# Altium schematic symbol library main.SchLib: 290 symbols (part 5 of 5)
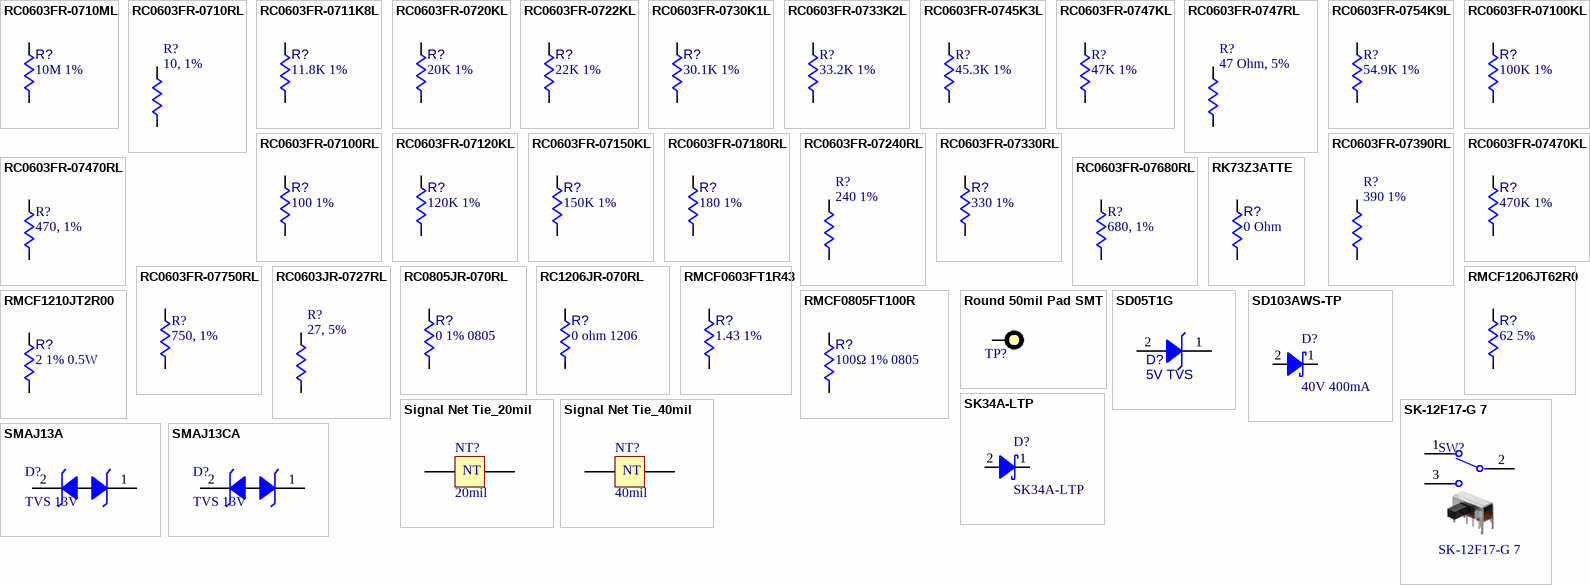
[diagram p14: symbols RC0603FR-0710ML to SMAJ13CA]

## SMAJ13A
designator D?, comment TVS 13V
TVS DIODE 13V 21.5V DO214AC; Manufacturer: Littelfuse; Manufacturer Part Number: SMAJ13A; Voltage - Breakdown (Min): 14.4V; Max Operating Temperature: 150°C; Voltage - Reverse Standoff (Typ): 13V; ComponentLink1URL: http://www.farnell.com/datasheets/2339786.pdf?src-supplier=Farnell; ComponentLink1Description: http://www.farnell.com/datasheets/2339786.pdf?src-supplier=Farnell; Supplier 1: Digi-Key; Supplier Part Number 1: SMAJ13ALFCT-ND
footprint DO-214AC BIDIRECTIONAL
pins: 1 K, 2 A

## SMAJ13CA
designator D?, comment TVS 13V
TVS BIDIRECTIONAL +/-13V; Manufacturer: Littelfuse; Manufacturer Part Number: SMAJ13CA; Voltage - Reverse Standoff (Typ): 13V (Max); Voltage - Breakdown (Min): 14.4V; Max Operating Temperature: 150°C; ComponentLink1URL: http://www.farnell.com/datasheets/2339786.pdf?src-supplier=Farnell; ComponentLink1Description: http://www.farnell.com/datasheets/2339786.pdf?src-supplier=Farnell; Supplier 1: Digi-Key; Supplier Part Number 1: SMAJ13CALFCT-ND
footprint DO-214AC BIDIRECTIONAL
pins: 1 K, 2 A

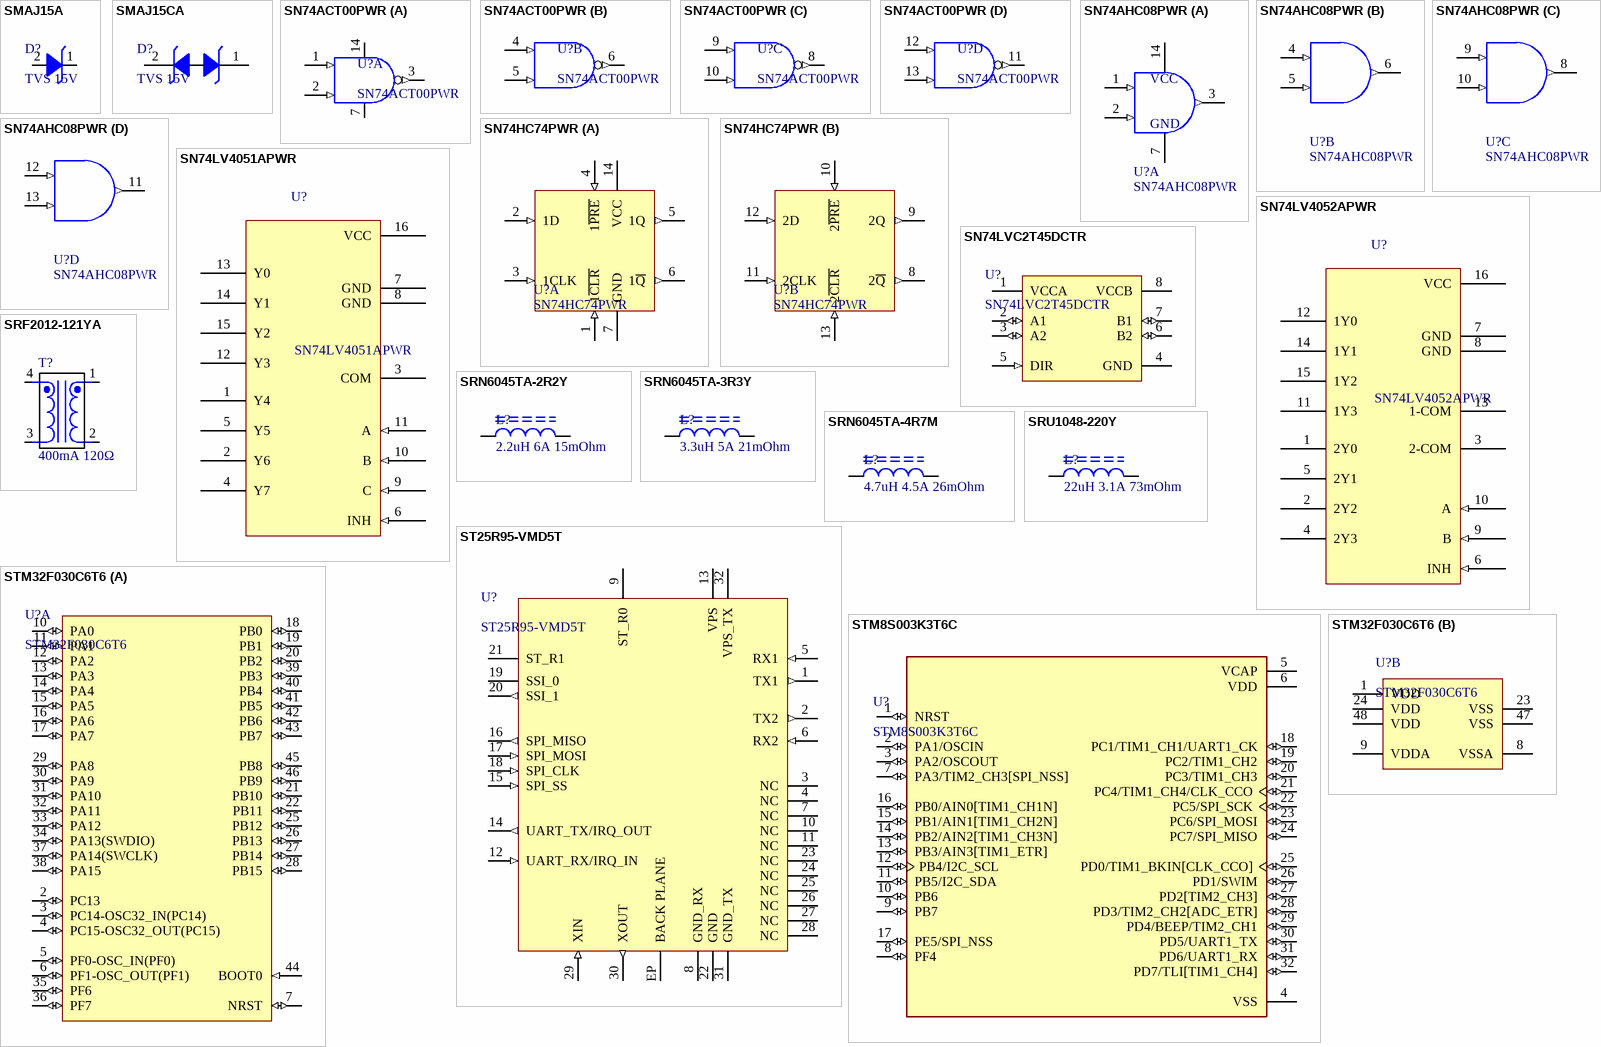
[diagram p8: symbols SMAJ15A to STM32F030C6T6]

## SMAJ15A
designator D?, comment TVS 15V
TVS DIODE 15VWM 32.5VC SMA; Manufacturer: Littelfuse; Manufacturer Part Number: SMAJ15A; Voltage - Reverse Standoff (Typ): 15V (Max); Voltage - Breakdown (Min): 24.4V; Max Operating Temperature: 150°C; ComponentLink1URL: http://www.farnell.com/datasheets/2339786.pdf?src-supplier=Farnell; ComponentLink1Description: http://www.farnell.com/datasheets/2339786.pdf?src-supplier=Farnell; Supplier 1: Digi-Key; Supplier Part Number 1: SMAJ15ABCT-ND
footprint DO-214AC BIDIRECTIONAL
pins: 1 K, 2 A

## SMAJ15CA
designator D?, comment TVS 15V
TVS DIODE 15V 24.4V DO214AC; Manufacturer: Littelfuse; Manufacturer Part Number: SMAJ15CA; Voltage - Reverse Standoff (Typ): 15V (Max); Max Operating Temperature: 150°C; ComponentLink1URL: http://www.farnell.com/datasheets/2339786.pdf?src-supplier=Farnell; ComponentLink1Description: http://www.farnell.com/datasheets/2339786.pdf?src-supplier=Farnell; Voltage - Breakdown (Min): 24.4V; Supplier 1: Digi-Key; Supplier Part Number 1: SMAJ15CALFCT-ND; Supplier 2: Newark; Supplier Part Number 2: 71J1959; Supplier 3: Newark; Supplier Part Number 3: 77K2691; Supplier 4: Digi-Key; Supplier Part Number 4: 497-3004-1-ND; Supplier 5: Digi-Key; Supplier Part Number 5: SMAJ15CA-E3/61GICT-ND; Supplier 6: Mouser; Supplier Part Number 6: 576-SMAJ15CA; Supplier 7: Arrow Electronics; Supplier Part Number 7: SMAJ15CA
footprint DO-214AC BIDIRECTIONAL
pins: 1 K, 2 A

## SN74ACT00PWR
designator U?
IC GATE NAND 4CH 2-INP 14TSSOP; Manufacturer: Texas Instruments; Budgetary Cost QTY 100: 0.31720; Quiescent Current: 2uA; Supply Voltage: 4.5V - 5.5V; Output Current: 24mA, 24mA; VIL: 0.8V; VOH: 2V; Vendor: DigiKey; Vendor PN: 296-4349-1-ND; Mfg PN: SN74ACT00PWR; Type: Open Drain; Type: NAND Gate 4 Channel; Supplier 1: Digi-Key; Supplier Part Number 1: 296-4349-1-ND; Supplier 2: Digi-Key; Supplier Part Number 2: 296-4288-1-ND; Supplier 3: Mouser; Supplier Part Number 3: 595-SN74ACT00PWR
footprint TSSOP-14, 4.4mm body width, pitch 0.65mm (TSOP, 14-Leads, Body 4.40mm width, Pitch 0.65mm)
part A pins: 1 1A (in), 2 1B (in), 3 1Y (out), 7 GND (power), 14 VCC (power)
part B pins: 4 2A (in), 5 2B (in), 6 2Y (out)
part C pins: 8 3Y (out), 9 3A (in), 10 3B (in)
part D pins: 11 4Y (out), 12 4A (in), 13 4B (in)

## SN74AHC08PWR
designator U?
IC GATE AND 4CH 2-INP 14TSSOP; Manufacturer: Texas Instruments; Max Propagation Delay @ V, Max CL: 7.9ns @ 5V, 50pF; Supply Voltage: 2V ~ 5.5V; Logic Type: AND Gate; Logic Level - Low: 0.5V ~ 1.65V; Logic Level - High: 1.5V ~ 3.85V; Current - Supply: 2µA; Number of Circuits: 4; Current - Output / Channel: 8mA, 8mA; ComponentLink1Description: New link; ComponentLink1URL: https://www.digikey.com/en/products/detail/texas-instruments/LMV324IPWR/381071; Manufacturer Part Number: SN74AHC08PWR; Supplier 1: Digi-Key; Supplier Part Number 1: 296-1082-1-ND
footprint TSSOP-14, 4.4mm body width, pitch 0.65mm (TSOP, 14-Leads, Body 4.40mm width, Pitch 0.65mm)
part A pins: 1 1A (in), 2 1B (in), 3 1Y (out), 7 GND (power), 14 VCC+ (power)
part B pins: 4 2A (in), 5 2B (in), 6 2Y (out)
part C pins: 8 3Y (out), 9 3A (in), 10 3B (in)
part D pins: 11 4Y (out), 12 4A (in), 13 4B (in)
part A text: VCC

## SN74HC74PWR
designator U?
IC FF D-TYPE DUAL 1BIT 14TSSOP; Manufacturer: Texas Instruments; Function: Set(Preset) and Reset; Output Type: Complimentary; Max Propagation Delay @ V, Max CL: 30ns @ 6V, 50pF; Trigger Type: Positive Edge; Current - Output High, Low: 5.2mA, 5.2mA; Voltage - Supply: 2V ~ 6V; Number of Elements: 2; Current - Quiescent (Iq): 4µA; Input Capacitance: 3pF; Manufacturer Part Number: SN74HC74PWR; Stock 1: 10,554; Supplier 1: Digi-Key; Type: D-Type; Supplier Part Number 1: 296-8372-1-ND
footprint TSSOP-14, 4.4mm body width, pitch 0.65mm (TSOP, 14-Leads, Body 4.40mm width, Pitch 0.65mm)
part A pins: 1 1~{CLR} (in), 2 1D (in), 3 1CLK (in), 4 1~{PRE} (in), 5 1Q (out), 6 1~{Q} (out), 7 GND (power), 14 VCC (power)
part B pins: 8 2~{Q} (out), 9 2Q (out), 10 2~{PRE} (in), 11 2CLK (in), 12 2D (in), 13 2~{CLR} (in)

## SN74LV4051APWR
designator U?
IC MUX/DEMUX 8X1 16TSSOP; Manufacturer: Texas Instruments; Switch Circuit: SP8T; Mux/Demux Circuit: 8:1; On-State Resistance (Max): 75Ohm; Channel to Channel Matching: 700mOhm; Supply Voltage: 2V ~ 5.5V; Switch Time: 14ns, 14ns; -3dB Bandwidth: 35MHz; Number of Circuits: 1; Stock 1: 48611; Case/Package: TSSOP-16; ComponentLink1Description: Link; ComponentLink1URL: https://www.digikey.com/en/products/detail/maxim-integrated/MAX11613EUA-T/2062201; Manufacturer Part Number: SN74LV4051APWR; Supplier 1: Digi-Key; Supplier Part Number 1: 296-3829-1-ND
footprint TSSOP-16, 4.4mm body width, pitch 0.65mm (TSOP, 16-Leads, Body 4.40mm width, Pitch 0.65mm)
pins: 1 Y4, 2 Y6, 3 COM, 4 Y7, 5 Y5, 6 INH (in), 7 GND (power), 8 GND (power), 9 C (in), 10 B (in), 11 A (in), 12 Y3, 13 Y0, 14 Y1, 15 Y2, 16 VCC (power)

## SN74LV4052APWR
designator U?
IC MULTIPLEXER DUAL 4X1 16TSSOP; Manufacturer: Texas Instruments; Switch Circuit: SP4T; Mux/Demux Circuit: 4:1; On-State Resistance (Max): 75Ohm; Channel to Channel Matching: 700mOhm; Supply Voltage: 2V ~ 5.5V; Switch Time: 14ns, 14ns; -3dB Bandwidth: 50MHz; Number of Circuits: 2; Stock 1: 48611; Case/Package: TSSOP-16; ComponentLink1Description: Link; ComponentLink1URL: https://www.digikey.com/en/products/detail/maxim-integrated/MAX11613EUA-T/2062201; Manufacturer Part Number: SN74LV4052APWR; Supplier 1: Digi-Key; Supplier Part Number 1: 296-3831-1-ND
footprint TSSOP-16, 4.4mm body width, pitch 0.65mm (TSOP, 16-Leads, Body 4.40mm width, Pitch 0.65mm)
pins: 1 2Y0, 2 2Y2, 3 2-COM, 4 2Y3, 5 2Y1, 6 INH (in), 7 GND (power), 8 GND (power), 9 B (in), 10 A (in), 11 1Y3, 12 1Y0, 13 1-COM, 14 1Y1, 15 1Y2, 16 VCC (power)

## SN74LVC2T45DCTR
designator U?
IC LEVEL SHIFTER BIDIREC 5.5V SSOP8; Manufacturer: Texas Instruments; Manufacturer Part Number: SN74LVC2T45DCTRE4; Direction: Bidirectional; Logic Function: Translator,Transceiver; Data Rate: 420Mbps; Number of Channels: 2; Propagation Delay: 45.2ns; Min Supply Voltage: 1.65V; Number of Elements: 1; Turn-On Delay Time: 17.7ns; High Level Output Current: -32mA; Low Level Output Current: 32mA; Quiescent Current: 3uA; Supplier 1: Digi-Key; Category: Logic Gates; Stock 1: 3050; Pricing 1: 1=0.61000, 10=0.53700, 100=0.41170, 500=0.32548, 1000=0.26038 (USD); Case/Package: SSOP; Min Operating Temperature: -40°C; Max Operating Temperature: 85°C; Max Supply Voltage: 5.5V; Number of Bits: 2; Output Current: 32mA; ComponentLink1URL: https://datasheet.ciiva.com/1900/sn74lvc2t45-1900582.pdf?src-supplier=Digi-Key; ComponentLink1Description: https://datasheet.ciiva.com/1900/sn74lvc2t45-1900582.pdf?src-supplier=Digi-Key; Supplier Part Number 1: 296-52741-1-ND
footprint DCT0008A_N (SOP, 8-Leads, Body 2.9x3.2mm, Pitch 0.65mm, IPC Medium Density)
pins: 1 VCCA (power) "Supply Voltage A", 2 A1 (io) "Output or input depending on state of DIR. Output level depends on VCCA", 3 A2 (io) "Output or input depending on state of DIR. Output level depends on VCCA", 4 GND (power) "Ground", 5 DIR (in) "Direction Pin, Connect to GND or to VCCA", 6 B2 (io) "Output or input depending on state of DIR. Output level depends on VCCB.", 7 B1 (io) "Output or input depending on state of DIR. Output level depends on VCCB.", 8 VCCB (power) "Supply Voltage B"

## SRF2012-121YA
designator T?, comment 400mA 120Ω
CHOKE CM 400mA 120Ω 0805; Manufacturer: Bourns; Manufacturer Part Number: SRF2012-121YA; Core Material: Ferrite; Number of Lines: 2; Impedance: 120R; Tolerance: 25%; Shielding: Unshielded; DC Resistance (DCR): 300mR; Test Frequency: 100MHz; Voltage Rating (DC): 50V; ComponentLink1URL: https://www.bourns.com/docs/Product-Datasheets/SRF2012A.pdf?src-supplier=Digi-Key; ComponentLink1Description: https://www.bourns.com/docs/Product-Datasheets/SRF2012A.pdf?src-supplier=Digi-Key; Supplier 1: Digi-Key; Supplier Part Number 1: SRF2012-121YADKR-ND; Stock 1: 13234; Pricing 1: 1=0.36, 10=0.322, 100=0.2214, 500=0.18918, 1000=0.1449 (USD); Case/Package: 0805; Min Operating Temperature: -40°C; Max Operating Temperature: 125°C; Resistance: 120R; Current Rating: 400mA; Current: 400mA; Max DC Current: 400mA; DC Current: 400mA; Height: 1.2mm
footprint DFN185P200X140-4N (DFN, 4-Leads, Body 1.20x2.00mm, Pitch 1.85mm, IPC Medium Density)
pins: 1, 2, 3, 4

## SRN6045TA-2R2Y
designator L?, comment 2.2uH 6A 15mOhm
FIXED IND 2.2UH 6A 15 MOHM SMD; Manufacturer: Bourns; Manufacturer Part Number: SRN6045TA-2R2Y; Saturation Current: 9.5A; DC Resistance (DCR): 15mR; Inductance Tolerance: 30%; Supplier 1: Digi-Key; Category: Fixed Inductors; Stock 1: 1245; Pricing 1: 1=0.55000, 10=0.48300, 100=0.34500, 500=0.28980 (USD); Inductance: 2.2uH; RMS Current (Irms): 6A; ComponentLink1URL: http://www.farnell.com/datasheets/2113223.pdf?src-supplier=Element14; ComponentLink1Description: http://www.farnell.com/datasheets/2113223.pdf?src-supplier=Element14; Supplier Part Number 1: SRN6045TA-2R2YCT-ND
footprint INDP6060X45N (Precision Wire Wound Inductor, 2-Leads, Body 6.00x6.00mm, IPC Medium Density)
pins: 1, 2

## SRN6045TA-3R3Y
designator L?, comment 3.3uH 5A 21mOhm
FIXED IND 3.3UH 5A 21 MOHM SMD; Manufacturer: Bourns; Manufacturer Part Number: SRN6045TA-3R3Y; Saturation Current: 7.8A; DC Resistance (DCR): 21mR; Inductance Tolerance: 30%; Category: Fixed Inductors; Inductance: 3.3uH; RMS Current (Irms): 5A; ComponentLink1URL: http://www.farnell.com/datasheets/2113223.pdf?src-supplier=Element14; ComponentLink1Description: http://www.farnell.com/datasheets/2113223.pdf?src-supplier=Element14; Supplier 1: Digi-Key; Supplier Part Number 1: SRN6045TA-3R3YCT-ND
footprint INDP6060X45N (Precision Wire Wound Inductor, 2-Leads, Body 6.00x6.00mm, IPC Medium Density)
pins: 1, 2

## SRN6045TA-4R7M
designator L?, comment 4.7uH 4.5A 26mOhm
FIXED IND 4.7UH 4.5A 26 MOHM SMD; Manufacturer: Bourns; Manufacturer Part Number: SRN6045TA-4R7M; Inductance Tolerance: 20%; Saturation Current: 6.8A; DC Resistance (DCR): 26mR; Supplier 1: Digi-Key; Category: Fixed Inductors; Stock 1: 2457; Pricing 1: 1=0.64000, 10=0.56400, 100=0.40250, 500=0.33810 (USD); Inductance: 4.7uH; RMS Current (Irms): 4.5A; ComponentLink1URL: http://www.farnell.com/datasheets/2647414.pdf?src-supplier=Farnell; ComponentLink1Description: http://www.farnell.com/datasheets/2647414.pdf?src-supplier=Farnell; Supplier Part Number 1: SRN6045TA-4R7MCT-ND
footprint INDP6060X45N (Precision Wire Wound Inductor, 2-Leads, Body 6.00x6.00mm, IPC Medium Density)
pins: 1, 2

## SRU1048-220Y
designator L?, comment 22uH 3.1A 73mOhm
FIXED IND 22UH 2.6A 42 MOHM SMD; Manufacturer: Bourns; Manufacturer Part Number: SRU1048-220Y; Type: Wirewound; Inductance: 22µH; Current - Saturation (Isat): 2A; DC Resistance (DCR): 42mR; Tolerance: ±30%; Shielding: Shielded; Frequency - Self Resonant: 12MHz; Stock 1: 4346; Current Rating (Amps): 2.6A; Supplier 1: Mouser; Supplier Part Number 1: 652-SRU1048-220Y; Supplier 2: Newark; Supplier Part Number 2: 09J2990; Supplier 3: Digi-Key; Supplier Part Number 3: SRU1048-220YCT-ND; Supplier 4: Avnet; Supplier Part Number 4: SRU1048-220Y
footprint INDP100100X50N (Precision Wire Wound Inductor, 2-Leads, Body 10.00x10.00mm, IPC Medium Density)
pins: 1, 2

## ST25R95-VMD5T
designator U?
NFC/HF RFID READER IC; Manufacturer: STMicroelectronics; Frequency: 13.56MHz; Standards: FeliCa, ISO 14443, ISO 15693, ISO 18000-3, MIFARE, NFC; Voltage - Supply: 2.7V ~ 5.5V; Manufacturer Part Number: ST25R95-VMD5T; Type: RFID Reader; Case/Package: 32-VFQFN Exposed Pad; Operating Temperature: -25°C ~ 85°C (TA); Supplier 1: Newark; Supplier Part Number 1: 99AC0619
footprint VFQFPN-32 5x5mm w EP
pins: 1 TX1 (out), 2 TX2 (out), 3 NC, 4 NC, 5 RX1 (in), 6 RX2 (in), 7 NC, 8 GND_RX (power), 9 ST_R0 (power), 10 NC, 11 NC, 12 UART_RX/IRQ_IN (in), 13 VPS (power), 14 UART_TX/IRQ_OUT (out), 15 SPI_SS (in), 16 SPI_MISO (out), 17 SPI_MOSI (in), 18 SPI_CLK (in), 19 SSI_0 (power), 20 SSI_1 (out), 21 ST_R1 (power), 22 GND (power), 23 NC, 24 NC, 25 NC, 26 NC, 27 NC, 28 NC, 29 XIN (in), 30 XOUT (out), 31 GND_TX (power), 32 VPS_TX (power), EP BACK PLANE (power)

## STM8S003K3T6C
designator U?
IC MCU STM8 16MHz 8/2KB 32-LQFP; MF: STMicroelectronics; Price: None; MP: STM8S003K3T6C; SnapEDA_Link: https://www.snapeda.com/parts/STM8S003K3T6C/STMicroelectronics/view-part/430215/?ref=snap; Availability: Unavailable; Package: LQFP-32 STMicroelectronics; Value: *
footprint QFP80P900X900X160-32N
pins: 1 NRST (io), 2 PA1/OSCIN (io), 3 PA2/OSCOUT (io), 4 VSS (power), 5 VCAP (power), 6 VDD (power), 7 PA3/TIM2_CH3[SPI_NSS] (io), 8 PF4 (io), 9 PB7 (io), 10 PB6 (io), 11 PB5/I2C_SDA (io), 12 PB4/I2C_SCL (io), 13 PB3/AIN3[TIM1_ETR] (io), 14 PB2/AIN2[TIM1_CH3N] (io), 15 PB1/AIN1[TIM1_CH2N] (io), 16 PB0/AIN0[TIM1_CH1N] (io), 17 PE5/SPI_NSS (io), 18 PC1/TIM1_CH1/UART1_CK (io), 19 PC2/TIM1_CH2 (io), 20 PC3/TIM1_CH3 (io), 21 PC4/TIM1_CH4/CLK_CCO (io), 22 PC5/SPI_SCK (io), 23 PC6/SPI_MOSI (io), 24 PC7/SPI_MISO (io), 25 PD0/TIM1_BKIN[CLK_CCO] (io), 26 PD1/SWIM (io), 27 PD2[TIM2_CH3] (io), 28 PD3/TIM2_CH2[ADC_ETR] (io), 29 PD4/BEEP/TIM2_CH1 (io), 30 PD5/UART1_TX (io), 31 PD6/UART1_RX (io), 32 PD7/TLI[TIM1_CH4] (io)

## STM32F030C6T6
designator U?
IC MCU STM32 M0 48MHz 32/4KB 48-LQFP; Manufacturer: STMicroelectronics; Number of I/Os: 39; Interface: I2C,SPI,UART,USART; Number of Timers/Counters: 5; Max Supply Voltage: 3.6V; RAM Size: 4KB; Max Power Dissipation: 364mW; Core Architecture: ARM; Min Supply Voltage: 2.4V; Oscillator Type: Internal; Data Bus Width: 32b; Peripherals: POR,PWM,WDT,DMA; Watchdog Timer: Yes; Number of ADC Channels: 16; Memory Size: 32KB; Number of SPI Channels: 1; Number of PWM Channels: 6; Supplier 1: Digi-Key; Manufacturer Part Number: STM32F030C6T6; Category: Microcontrollers; Stock 1: 1620; Pricing 1: 1=1.48000, 10=1.32900, 25=1.25400, 100=1.06840, 250=1.00320, 500=0.87780, 1000=0.72732, 2500=0.67716, 5000=0.65208 (USD); Case/Package: LQFP; Min Operating Temperature: -40°C; Max Operating Temperature: 85°C; Frequency: 48MHz; Number of Programmable I/O: 39; Max Frequency: 48MHz; Number of I2C Channels: 1; Height: 1.45mm; ComponentLink1URL: https://datasheet.ciiva.com/29720/dm00088500-29720640.pdf?src-supplier=Avnet; ComponentLink1Description: https://datasheet.ciiva.com/29720/dm00088500-29720640.pdf?src-supplier=Avnet; Supplier Part Number 1: 497-14042-ND
footprint STM-LQFP48_N (QFP, 48-Leads, Body 7x7mm, Pitch 0.5mm, IPC Medium Density)
part A pins: 2 PC13 (io) "PC13/RTC_TAMP1,RTC_TS,RTC_OUT,WKUP2", 3 PC14-OSC32_IN(PC14) (io) "PC14-OSC32_IN(PC14)/OSC32_IN", 4 PC15-OSC32_OUT(PC15) (io) "PC15-OSC32_OUT(PC15)/OSC32_OUT", 5 PF0-OSC_IN(PF0) (io) "PF0-OSC_IN(PF0)/OSC_IN", 6 PF1-OSC_OUT(PF1) (io) "PF1-OSC_OUT(PF1)/OSC_OUT", 7 NRST (io) "Device reset input / internal reset output (active low)", 10 PA0 (io) "PA0/USART1_CTS/ADC_IN0,RTC_TAMP2,WKUP1", 11 PA1 (io) "PA1/USART1_RTS,EVENTOUT/ADC_IN1", 12 PA2 (io) "PA2/USART1_TX/ADC_IN2", 13 PA3 (io) "PA3/USART1_RX/ADC_IN3", 14 PA4 (io) "PA4/SPI1_NSS,USART1_CK,TIM14_CH1/ADC_IN4", 15 PA5 (io) "PA5/SPI1_SCK/ADC_IN5", 16 PA6 (io) "PA6/SPI1_MISO,TIM3_CH1,TIM1_BKIN,TIM16_CH1,EVENTOUT/ADC_IN6", 17 PA7 (io) "PA7/SPI1_MOSI,TIM3_CH2,TIM14_CH1,TIM1_CH1N,TIM17_CH1,EVENTOUT/ADC_IN7", 18 PB0 (io) "PB0/TIM3_CH3,TIM1_CH2N,EVENTOUT/ADC_IN8", 19 PB1 (io) "PB1/TIM3_CH4,TIM14_CH1,TIM1_CH3N/ADC_IN9", 20 PB2 (io), 21 PB10 (io) "PB10/I2C1_SCL", 22 PB11 (io) "PB11/I2C1_SDA,EVENTOUT", 25 PB12 (io) "PB12/SPI1_NSS,TIM1_BKIN,EVENTOUT", 26 PB13 (io) "PB13/SPI1_SCK,TIM1_CH1N", 27 PB14 (io) "PB14/SPI1_MISO,TIM1_CH2N", 28 PB15 (io) "PB15/SPI1_MOSI,TIM1_CH3N/RTC_REFIN", 29 PA8 (io) "PA8/USART1_CK,TIM1_CH1,EVENTOUT,MCO", 30 PA9 (io) "PA9/USART1_TX,TIM1_CH2,I2C1_SCL", 31 PA10 (io) "PA10/USART1_RX,TIM1_CH3,TIM17_BKIN,I2C1_SDA", 32 PA11 (io) "PA11/USART1_CTS,TIM1_CH4,EVENTOUT", 33 PA12 (io) "PA12/USART1_RTS,TIM1_ETR,EVENTOUT", 34 PA13(SWDIO) (io) "PA13(SWDIO)/IR_OUT,SWDIO", 35 PF6 (io) "PF6/I2C1_SCL", 36 PF7 (io) "PF7/I2C1_SDA", 37 PA14(SWCLK) (io) "PA14(SWCLK)/USART1_TX,SWCLK", 38 PA15 (io) "PA15/SPI1_NSS,USART1_RX,EVENTOUT", 39 PB3 (io) "PB3/SPI1_SCK,EVENTOUT", 40 PB4 (io) "PB4/SPI1_MISO,TIM3_CH1,EVENTOUT", 41 PB5 (io) "PB5/SPI1_MOSI,I2C1_SMBA,TIM16_BKIN,TIM3_CH2", 42 PB6 (io) "PB6/I2C1_SCL,USART1_TX,TIM16_CH1N", 43 PB7 (io) "PB7/I2C1_SDA,USART1_RX,TIM17_CH1N", 44 BOOT0 (in) "Boot memory selection", 45 PB8 (io) "PB8/I2C1_SCL,TIM16_CH1", 46 PB9 (io) "PB9/I2C1_SDA,IR_OUT,TIM17_CH1,EVENTOUT"
part B pins: 1 VDD (power) "Complementary power supply", 8 VSSA (power) "Analog ground", 9 VDDA (power) "Analog power supply", 23 VSS (power) "Ground", 24 VDD (power) "Digital power supply", 47 VSS (power) "Ground", 48 VDD (power) "Digital power supply"

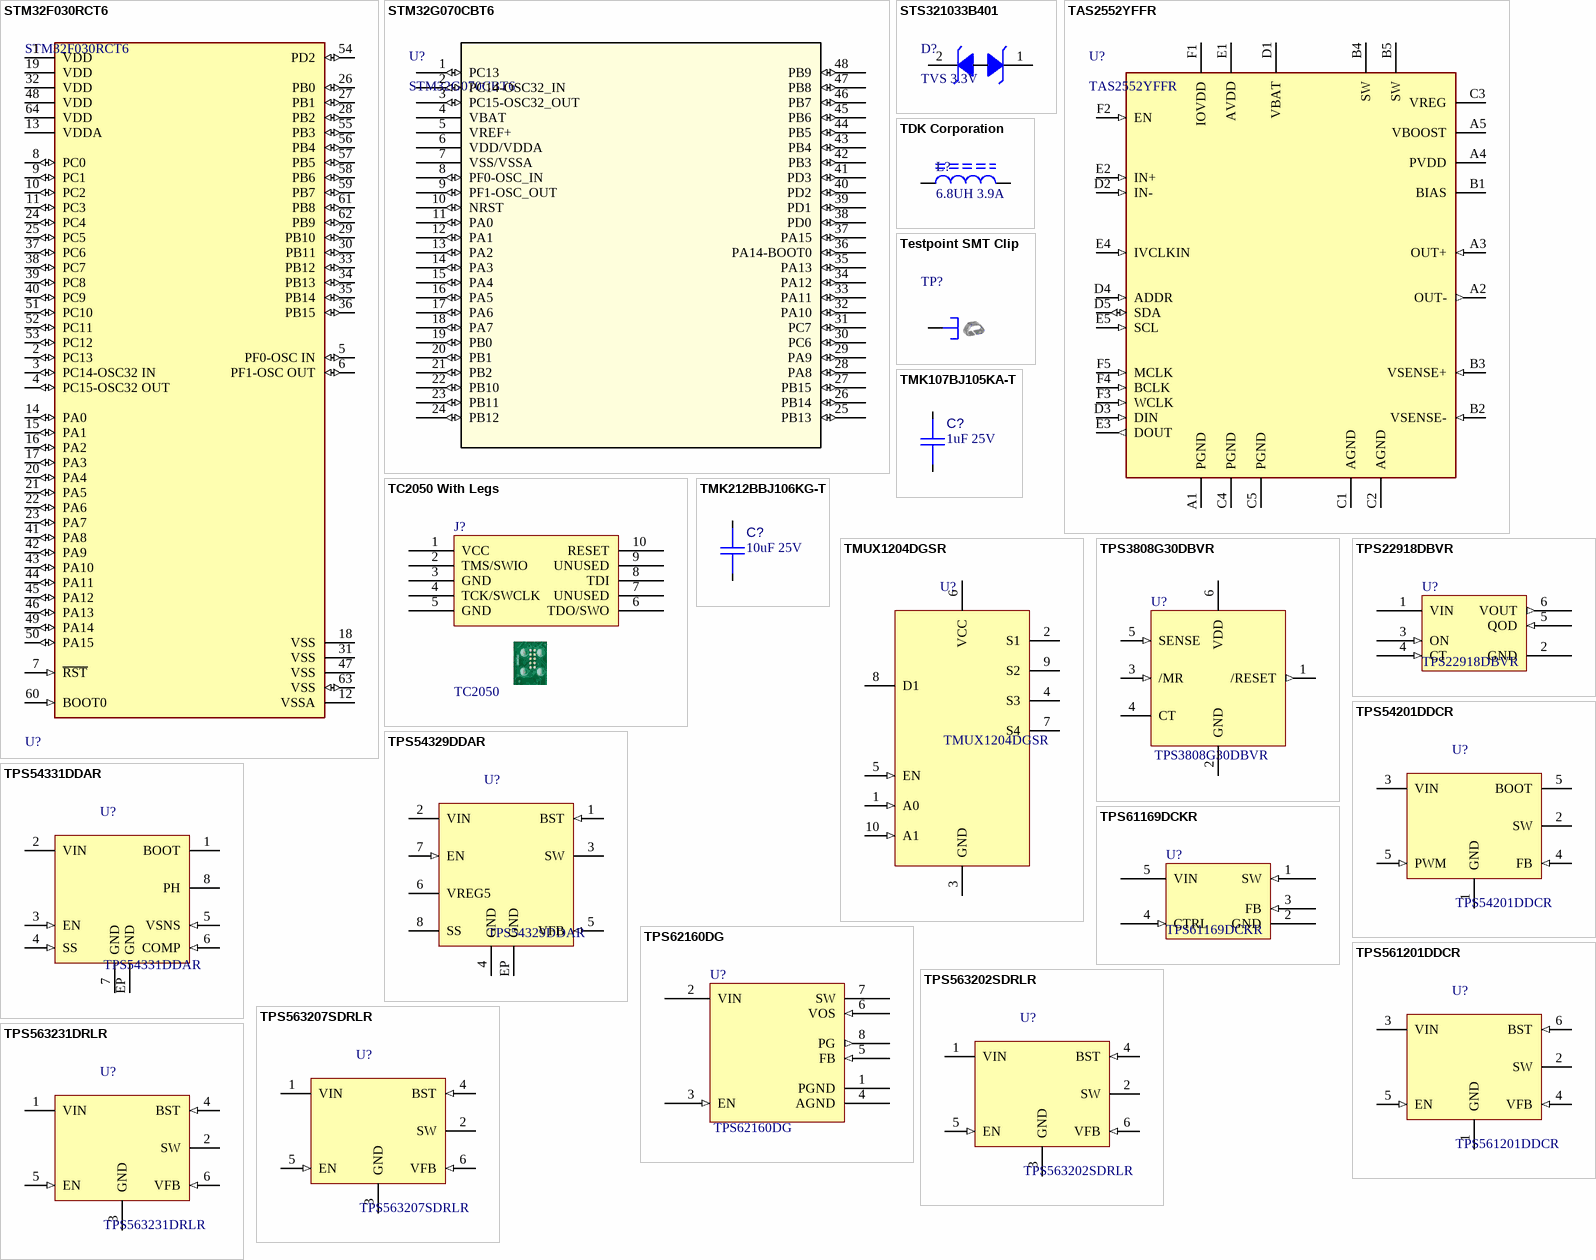
[diagram p9: symbols STM32F030RCT6 to TPS563231DRLR]

## STM32F030RCT6
designator U?
IC MCU STM32 M0 48MHz 256/32KB 64-LQFP; Manufacturer: STMicroelectronics; Number of I/Os: 51; Interface: I2C,SPI,USART; Memory Size: 256KB; Core Architecture: ARM; RAM Size: 32KB; Min Supply Voltage: 2.4V; Max Supply Voltage: 3.6V; Data Bus Width: 32b; Max Power Dissipation: 455mW; Number of Programmable I/O: 55; Number of Timers/Counters: 7; Watchdog Timer: Yes; Supplier 1: Digi-Key; Manufacturer Part Number: STM32F030RCT6; Category: Microcontrollers; Stock 1: 1141; Pricing 1: 1=2.69000, 10=2.41900, 25=2.28680, 100=1.98200, 250=1.88036, 500=1.68722, 1000=1.42296, 2500=1.35181, 5000=1.30099 (USD); Case/Package: LQFP; Min Operating Temperature: -40°C; Max Operating Temperature: 85°C; Frequency: 48MHz; Max Frequency: 48MHz; ComponentLink1URL: http://www.farnell.com/datasheets/2554494.pdf?src-supplier=Farnell; ComponentLink1Description: http://www.farnell.com/datasheets/2554494.pdf?src-supplier=Farnell; Supplier Part Number 1: 497-17336-ND
footprint FP-LQFP64-5W-IPC_C
footprint FP-LQFP64-5W-IPC_B
footprint FP-LQFP64-5W-IPC_A
pins: 1 VDD (power), 2 PC13 (io), 3 PC14-OSC32 IN (io), 4 PC15-OSC32 OUT (io), 5 PF0-OSC IN (io), 6 PF1-OSC OUT (io), 7 ~{RST} (in), 8 PC0 (io), 9 PC1 (io), 10 PC2 (io), 11 PC3 (io), 12 VSSA (power), 13 VDDA (power), 14 PA0 (io), 15 PA1 (io), 16 PA2 (io), 17 PA3 (io), 18 VSS (power), 19 VDD (power), 20 PA4 (io), 21 PA5 (io), 22 PA6 (io), 23 PA7 (io), 24 PC4 (io), 25 PC5 (io), 26 PB0 (io), 27 PB1 (io), 28 PB2 (io), 29 PB10 (io), 30 PB11 (io), 31 VSS (power), 32 VDD (power), 33 PB12 (io), 34 PB13 (io), 35 PB14 (io), 36 PB15 (io), 37 PC6 (io), 38 PC7 (io), 39 PC8 (io), 40 PC9 (io), 41 PA8 (io), 42 PA9 (io), 43 PA10 (io), 44 PA11 (io), 45 PA12 (io), 46 PA13 (io), 47 VSS (power), 48 VDD (power), 49 PA14 (io), 50 PA15 (io), 51 PC10 (io), 52 PC11 (io), 53 PC12 (io), 54 PD2 (io), 55 PB3 (io), 56 PB4 (io), 57 PB5 (io), 58 PB6 (io), 59 PB7 (io), 60 BOOT0 (in), 61 PB8 (io), 62 PB9 (io), 63 VSS (io), 64 VDD (power)

## STM32G070CBT6
designator U?
IC MCU STM32 M0+ 64MHz 128/36KB 48-LQFP; Manufacturer: STMicroelectronics; Supplier 1: Digi-Key; Manufacturer Part Number: STM32G070CBT6; Stock 1: 3470; Pricing 1: 1=1.87000, 10=1.67900, 25=1.58400, 100=1.34960, 250=1.26720, 500=1.10880, 1000=0.91872, 2500=0.85536, 5000=0.82368 (USD); ComponentLink1URL: https://www.mouser.com/datasheet/2/389/stm32g070cb-1517433.pdf?src-supplier=Avnet; ComponentLink1Description: https://www.mouser.com/datasheet/2/389/stm32g070cb-1517433.pdf?src-supplier=Avnet; Supplier Part Number 1: 497-STM32G070CBT6-ND
footprint STM-LQFP48_N (QFP, 48-Leads, Body 7x7mm, Pitch 0.5mm, IPC Medium Density)
pins: 1 PC13 (io), 2 PC14-OSC32_IN (io), 3 PC15-OSC32_OUT (io), 4 VBAT (power), 5 VREF+ (power), 6 VDD/VDDA (power), 7 VSS/VSSA (power), 8 PF0-OSC_IN (io), 9 PF1-OSC_OUT (io), 10 NRST (io), 11 PA0 (io), 12 PA1 (io), 13 PA2 (io), 14 PA3 (io), 15 PA4 (io), 16 PA5 (io), 17 PA6 (io), 18 PA7 (io), 19 PB0 (io), 20 PB1 (io), 21 PB2 (io), 22 PB10 (io), 23 PB11 (io), 24 PB12 (io), 25 PB13 (io), 26 PB14 (io), 27 PB15 (io), 28 PA8 (io), 29 PA9 (io), 30 PC6 (io), 31 PC7 (io), 32 PA10 (io), 33 PA11 (io), 34 PA12 (io), 35 PA13 (io), 36 PA14-BOOT0 (io), 37 PA15 (io), 38 PD0 (io), 39 PD1 (io), 40 PD2 (io), 41 PD3 (io), 42 PB3 (io), 43 PB4 (io), 44 PB5 (io), 45 PB6 (io), 46 PB7 (io), 47 PB8 (io), 48 PB9 (io)

## STS321033B401
designator D?, comment TVS 3.3V
TVS BIDIRECTIONAL +/-3.3V; Manufacturer: Eaton; Manufacturer Part Number: STS321033B401; Voltage - Reverse Standoff (Typ): 3.3V (Max); Capacitance: 40pF @ 1MHz; Voltage - Breakdown (Min): 3.6V; Max Operating Temperature: 150°C; ComponentLink1URL: http://www.farnell.com/datasheets/2339786.pdf?src-supplier=Farnell; ComponentLink1Description: http://www.farnell.com/datasheets/2339786.pdf?src-supplier=Farnell; Supplier 1: Digi-Key; Supplier Part Number 1: DF2B7AFUH3FCT-ND
footprint SOD-323 BIDIRECTIONAL
pins: 1 K, 2 A

## TAS2552YFFR
designator U?
IC AMP D/G MONO 4W 30DSBGA; Manufacturer: Texas Instruments; Voltage - Supply: 3V-5.5V; Interface: SAI/Analog; Output Power: 4W @ 8ohm; I2C Address: 0x40; Manufacturer's Part Number: TAS2552YFFR; Operating Temperature: -40°C ~ 85°C; Type: Class DG; Supplier 1: Digi-Key; Supplier Part Number 1: 296-37477-1-ND
footprint DSBGA-30 2.855x2.575mm (DSBGA-30 2.855x2.675mm)
pins: A1 PGND (power), A2 OUT- (out), A3 OUT+ (in), A4 PVDD (power), A5 VBOOST (power), B1 BIAS (power), B2 VSENSE- (in), B3 VSENSE+ (in), B4 SW (power), B5 SW (power), C1 AGND (power), C2 AGND (power), C3 VREG (power), C4 PGND (power), C5 PGND (power), D1 VBAT (power), D2 IN- (in), D3 DIN (in), D4 ADDR (in), D5 SDA (io), E1 AVDD (power), E2 IN+ (in), E3 DOUT (out), E4 IVCLKIN (in), E5 SCL (in), F1 IOVDD (power), F2 EN (in), F3 WCLK (in), F4 BCLK (in), F5 MCLK (in)

## TC2050 With Legs
designator J?, comment TC2050  (no BOM)
SIG ARM 10-pin JTAG TC2050 legs; Load: NO LOAD; ComponentLink1Description: Layout spec; ComponentLink1URL: http://www.tag-connect.com/Materials/TC2050-IDC%20Datasheet.pdf
footprint TC2050 LEGS TAG LAYOUT
pins: 1 VCC, 2 TMS/SWIO, 3 GND, 4 TCK/SWCLK, 5 GND, 6 TDO/SWO, 7 UNUSED, 8 TDI, 9 UNUSED, 10 RESET

## TDK Corporation
designator L?, comment 6.8UH 3.9A
FIXED IND 6.8UH 3.9A 37MOHM SMD; Manufacturer: Bourns; Manufacturer Part Number: VLS6045AF-6R8M; RMS Current (Irms): 3.5A; DC Resistance (DCR): 37mR; Inductance Tolerance: 20%; Category: Fixed Inductors; Inductance: 6.8uH; Saturation Current: 3.5A; ComponentLink1URL: http://www.farnell.com/datasheets/2113223.pdf?src-supplier=Element14; ComponentLink1Description: http://www.farnell.com/datasheets/2113223.pdf?src-supplier=Element14; Supplier 1: Digi-Key; Supplier 2: Mouser; Supplier Part Number 1: 445-180836-1-ND; Supplier Part Number 2: 810-VLS6045AF-6R8M
footprint INDP6060X45N (Precision Wire Wound Inductor, 2-Leads, Body 6.00x6.00mm, IPC Medium Density)
pins: 1, 2

## Testpoint SMT Clip
designator TP?  (value not drawn)
SIG miniature test loop SMD; Manufacturer: Keystone Electronics; Manufacturer Part Number: 5015; Category: Test and Measurement; Stock 1: 1025000; Pricing 1: 1000=0.18345, 3000=0.1639, 5000=0.1568, 10000=0.14265, 50000=0.14203 (USD); Type: PC Test Point, Miniature; Terminal: 0.010" (0.25mm) Phosphor Bronze, Silver Plated; Mounting Type: Surface Mount; ComponentLink1URL: http://www.keyelco.com/product-pdf.cfm?p=1353; ComponentLink1Description: http://www.keyelco.com/product-pdf.cfm?p=1353; Supplier 1: Digi-Key; Supplier Part Number 1: 36-5015TR-ND; Supplier 2: Mouser; Supplier Part Number 2: 534-5015; Supplier 3: Newark; Supplier Part Number 3: 21J7580
footprint Testpoint Keystone 5015 (TEST POINT MINIATURE SMT)
pins: 1

## TMK107BJ105KA-T
designator C?, comment 1uF 25V
CAP CER 1UF 25V X7R 0603; Manufacturer: Taiyo Yuden; Manufacturer Part Number: TMK107BJ105KA-T; Tolerance: 10%; item_number: 21234; Stock 1: 165888; Pricing 1: 1=0.1, 10=0.073, 100=0.0324, 500=0.0231, 1000=0.0182 (USD); ComponentLink1URL: https://datasheet.ciiva.com/2990/tmk107b7105ka-t-ss-2990064.pdf; ComponentLink1Description: https://datasheet.ciiva.com/2990/tmk107b7105ka-t-ss-2990064.pdf; Case/Package: 0603; Min Operating Temperature: -55°C; Max Operating Temperature: 125°C; Capacitance: 1uF; Voltage Rating: 25V; Temperature Coefficient: X7R; Height: 0.8mm; Supplier 1: Digi-Key; Supplier Part Number 1: 587-1248-1-ND
footprint CAPC1608X09N (Chip Capacitor, 2-Leads, Body 1.60x0.80mm, IPC Medium Density)
pins: 1, 2

## TMK212BBJ106KG-T
designator C?, comment 10uF 25V
CAP CER 10UF 25V X5R 0805; Manufacturer: Taiyo Yuden; Manufacturer Part Number: TMK212BBJ106KG-T; Tolerance: ±10%; Category: Capacitors; Temperature Coefficient: X5R; Operating Temperature: -55°C ~ 85°C; Features: -; Applications: General Purpose; Mounting Type: Surface Mount, MLCC; ComponentLink1URL: http://search.murata.co.jp/Ceramy/image/img/A01X/G101/ENG/GRM21BR61C106KE15-01.pdf; ComponentLink1Description: http://search.murata.co.jp/Ceramy/image/img/A01X/G101/ENG/GRM21BR61C106KE15-01.pdf; Capacitance: 10uF; Voltage - Rated: 25V; Supplier 1: Digi-Key; Supplier Part Number 1: 587-2985-1-ND; Supplier 2: Mouser; Supplier Part Number 2: 963-TMK212BBJ106KG-T
footprint CAPC2012X14N (Chip Capacitor, 2-Leads, Body 2.00x1.25mm, IPC Medium Density)
pins: 1, 2

## TMUX1204DGSR
designator U?
IC Switch 4:1 5Ohm (Typ) 10-VSSOP; Manufacturer: Texas Instruments; Switch Circuit: SP4T; Channel to Channel Matching: 150mOhm; Supply Voltage: 1.08V-5.5V; Switch Time: 14ns, 5ns; -3dB Bandwidth: 125MHz; Number of Circuits: 1; Stock 1: 3041; Case/Package: VSSOP-10; Mux/Demux Circuit: 4:1; On-State Resistance (Max): 5Ohm; ComponentLink1Description: Link; ComponentLink1URL: https://www.digikey.com/en/products/detail/maxim-integrated/MAX11613EUA-T/2062201; Manufacturer Part Number: TMUX1204DGSR; Supplier 1: Digi-Key; Supplier Part Number 1: 296-TMUX1204DGSRCT-ND; Supplier 2: Mouser; Supplier Part Number 2: 595-TMUX1204DGSR
footprint VSSOP-10, 4.4mm body width, pitch 0.5mm
pins: 1 A0 (in), 2 S1, 3 GND (power), 4 S3, 5 EN (in), 6 VCC (power), 7 S4, 8 D1, 9 S2, 10 A1 (in)

## TPS3808G30DBVR
designator U?
IC SUPERVISOR 1 CHANNEL SOT23-6; Manufacturer: Texas Instruments; Output: Open Drain; Reset Timeout: Adjustable/Selectable; Voltage - Threshold: 2.79V; Manufacturer Part Number: TPS3808G30DBVR; Operating Temperature: -40°C ~ 125°C (TJ); Type: Simple Reset/Power-On Reset; Supplier 1: Digi-Key; Supplier Part Number 1: 296-17194-1-ND
footprint SOT-23-6
pins: 1 /RESET (out), 2 GND (power), 3 /MR (in), 4 CT (power), 5 SENSE (in), 6 VDD (power)

## TPS22918DBVR
designator U?
IC LOAD SWITCH 5.5V 2A 52m 6-SOT-23; Manufacturer: Texas Instruments; Number of Outputs: 1; Interface: On/Off; Output Configuration: High Side; Supplier 1: Digi-Key; Manufacturer Part Number: TPS22918DBVR; Category: Power Management ICs; Stock 1: 10935; Pricing 1: 1=0.54000, 10=0.46100, 25=0.43040, 100=0.31980, 250=0.27060, 500=0.25830, 1000=0.19065 (USD); Case/Package: SOT-23-6; Min Operating Temperature: -40°C; Max Operating Temperature: 105°C; Max Output Current: 2A; Number of Channels: 1; ComponentLink1URL: http://www.ti.com/lit/ds/symlink/tps22918.pdf?src-supplier=Digi-Key; ComponentLink1Description: http://www.ti.com/lit/ds/symlink/tps22918.pdf?src-supplier=Digi-Key; Supplier Part Number 1: 296-46278-1-ND
footprint SOT95P280X145-6N (SOT23, 6-Leads, Body 2.90x2.80mm, Pitch 0.95mm, IPC Medium Density)
pins: 1 VIN (power), 2 GND (power), 3 ON (in), 4 CT (in), 5 QOD (in), 6 VOUT (out)

## TPS54201DDCR
designator U?
IC REG BUCK 0.6-7V ADJ 3A 6-SOT; Manufacturer: Texas Instruments; Voltage - Input (Min): 4.5V; Voltage - Input (Max): 28V; Voltage - Output (Min/Fixed): 1.5V; Voltage - Output (Max): 23V; Output Type: Adjustable; Frequency - Switching: 700kHz; Current - Output: 1.5A; Manufacturer Part Number: TPS54201DDCR; Category: Voltage Regulators - Switching; Topology: Buck; Operating Temperature: -40°C ~ 125°C (TJ); Supplier 1: Digi-Key; Supplier Part Number 1: 296-47676-1-ND
footprint SOT-23-6
pins: 1 GND (power), 2 SW (power), 3 VIN (power), 4 FB (in), 5 PWM (in), 5 BOOT (power)

## TPS54329DDAR
designator U?
IC REG BUCK ADJUSTABLE 3A 8SOPWR; Manufacturer: Texas Instruments; Voltage - Input (Min): 4.5V; Voltage - Input (Max): 18V; Voltage - Output (Min/Fixed): 0.76V; Voltage - Output (Max): 7V; Frequency - Switching: 650kHz; Manufacturer Part Number: TPS54329DDAR; Topology: Buck; Output Type: Adjustable; Operating Temperature: -40°C ~ 125°C (TJ); Current - Output: 3A; Supplier 1: Digi-Key; Supplier Part Number 1: 296-29849-1-ND; Supplier 2: Mouser; Supplier Part Number 2: 595-TPS54329DDAR; Supplier 3: Mouser; Supplier Part Number 3: 595-TPS54329EDDAR
footprint SOIC-8 3.9mm Width EP
pins: 1 BST (in), 2 VIN (power), 3 SW (power), 4 GND (power), 5 VFB (in), 6 VREG5, 7 EN (in), 8 SS, EP GND (power)

## TPS54331DDAR
designator U?
IC REG BUCK ADJUSTABLE 3A 8SOPWR; Manufacturer: Texas Instruments; Voltage - Input (Min): 3.5V; Voltage - Input (Max): 28V; Voltage - Output (Min/Fixed): 0.8V; Voltage - Output (Max): 25V; Frequency - Switching: 570kHz; Manufacturer Part Number: TPS54331DDAR; Category: Voltage Regulators - Switching; Topology: Buck; Output Type: Adjustable; Operating Temperature: -40°C ~ 125°C (TJ); Current - Output: 3A; Supplier 1: Digi-Key; Supplier Part Number 1: 296-39419-1-ND; Supplier 2: Mouser; Supplier Part Number 2: 595-TPS54331DDAR
footprint SOIC-8 3.9mm Width EP
pins: 1 BOOT (power), 2 VIN (power), 3 EN (in), 4 SS (in), 5 VSNS (in), 6 COMP (in), 7 GND (power), 8 PH (power), EP GND (power)

## TPS61169DCKR
designator U?
IC BOOST 38V LED backlight driver SC70-5; Manufacturer: Texas Instruments; Max Input Voltage: 5.5V; Max Output Current: 2.4A; Number of Channels: 1; Switching Frequency: 1.2MHz; Output Current per Channel: 1.8A; Min Output Voltage: 2.7V; Output Current: 400mA; Nominal Input Voltage (DC): 3.6V; Dimming: PWM; Output Type: Frequency; Supplier 1: Digi-Key; Manufacturer Part Number: TPS61169DCKR; Category: LED Drivers; Stock 1: 121935; Pricing 1: 1=0.90000, 10=0.80500, 25=0.76440, 100=0.58700, 250=0.51872, 500=0.49140, 1000=0.38220 (USD); Case/Package: SC; Min Operating Temperature: -40°C; Max Operating Temperature: 85°C; Number of Outputs: 1; Max Supply Voltage: 5.5V; Frequency: 1.2MHz; Max Output Voltage: 38V; Output Voltage: 38V; Min Input Voltage: 2.7V; Max Input Voltage (DC): 5.5V; Topology: Boost; Height: 1.1mm; ComponentLink1URL: http://www.ti.com/general/docs/lit/getliterature.tsp?genericPartNumber=TPS61169&&fileType=pdf&src-supplier=Element14; ComponentLink1Description: http://www.ti.com/general/docs/lit/getliterature.tsp?genericPartNumber=TPS61169&&fileType=pdf&src-supplier=Element14; Supplier Part Number 1: 296-40821-1-ND
footprint SOT65P210X110-5N (SOT23, 5-Leads, Body 2.00x2.10mm, Pitch 0.65mm, IPC Medium Density)
pins: 1 SW (in), 2 GND (power), 3 FB (in), 4 CTRL (in), 5 VIN (power)

## TPS62160DG
designator U?
IC REG BUCK 0.9-6V ADJ 1A WSON8; Manufacturer: Texas Instruments; Manufacturer Part Number: TPS62160DGKT; Number of Outputs: 1; Output Voltage: 6V; Switching Frequency: 2.25MHz; Max Input Voltage: 17V; Min Input Voltage: 3V; Min Output Voltage: 900mV; Synchronous Rectifier: Yes; Quiescent Current: 17uA; Supplier 1: Digi-Key; Supplier Part Number 1: 296-30318-6-ND; Stock 1: 42; Pricing 1: 1=2.15, 10=1.932, 100=1.5533 (USD); Case/Package: VSSOP; Min Operating Temperature: -40°C; Max Operating Temperature: 125°C; Output Current: 1A; Max Output Current: 1A; Max Output Voltage: 6V; Operating Supply Voltage: 17V; Height: 0.95mm; ComponentLink1URL: https://datasheet.ciiva.com/46397/1857528-46397605.pdf; ComponentLink1Description: https://datasheet.ciiva.com/46397/1857528-46397605.pdf
footprint SOP127P600-8N
pins: 1 PGND (power), 2 VIN (power), 3 EN (in), 4 AGND (power), 5 FB (in), 6 VOS (in), 7 SW (power), 8 PG (out)

## TPS561201DDCR
designator U?
IC REG BUCK ADJ 1A TSOT23-6; Manufacturer: Texas Instruments; Manufacturer Part Number: TPS563231DRLR; Voltage - Input (Min): 4.5V; Voltage - Input (Max): 17V; Voltage - Output (Min/Fixed): 0.76V; Voltage - Output (Max): 7V; Output Type: Adjustable; Frequency - Switching: 580kHz; Category: Voltage Regulators - Switching; Stock 1: 3150; Pricing 1: 1=0.83000, 10=0.72600, 25=0.68200, 100=0.51700, 250=0.44000, 500=0.41800, 1000=0.31900 (USD); Topology: Buck; Operating Temperature: -40°C ~ 85°C (TJ); Current - Output: 1A; Supplier 1: Digi-Key; Supplier Part Number 1: 296-47885-1-ND
footprint SOTFL50P160X60-6N (SOTFL, 6-Leads, Body 1.60x1.60mm, Pitch 0.50mm, IPC Medium Density)
pins: 1 GND (power), 2 SW (power), 3 VIN (power), 4 VFB (in), 5 EN (in), 6 BST (in)

## TPS563202SDRLR
designator U?
IC REG BUCK 4.3-V TO 17-VIN, 3-A, ECO M; Manufacturer: Texas Instruments; Voltage - Input (Min): 4.3V; Voltage - Input (Max): 17V; Voltage - Output (Min/Fixed): 0.806V; Voltage - Output (Max): 7V; Output Type: Adjustable; Frequency - Switching: 580kHz; Current - Output: 3A; Manufacturer Part Number: TPS563202SDRLR; Topology: Buck; Operating Temperature: -40°C ~ 125°C (TJ); Supplier 1: Mouser; Supplier Part Number 1: 595-TPS563202SDRLR
footprint SOTFL50P160X60-6N (SOTFL, 6-Leads, Body 1.60x1.60mm, Pitch 0.50mm, IPC Medium Density)
pins: 1 VIN (power), 2 SW (power), 3 GND (power), 4 BST (in), 5 EN (in), 6 VFB (in)

## TPS563207SDRLR
designator U?
IC REG BUCK 4.3-V TO 17-VIN, 3-A, FCCM M; Manufacturer: Texas Instruments; Voltage - Input (Min): 4.3V; Voltage - Input (Max): 17V; Voltage - Output (Min/Fixed): 0.806V; Voltage - Output (Max): 7V; Output Type: Adjustable; Frequency - Switching: 580kHz; Current - Output: 3A; Manufacturer Part Number: TPS563207SDRLR; Topology: Buck; Operating Temperature: -40°C ~ 125°C (TJ); Supplier 1: Digi-Key; Supplier Part Number 1: 296-TPS563207SDRLRCT-ND
footprint SOTFL50P160X60-6N (SOTFL, 6-Leads, Body 1.60x1.60mm, Pitch 0.50mm, IPC Medium Density)
pins: 1 VIN (power), 2 SW (power), 3 GND (power), 4 BST (in), 5 EN (in), 6 VFB (in)

## TPS563231DRLR
designator U?
IC REG BUCK 0.6-7V ADJ 3A 6-SOT; Manufacturer: Texas Instruments; Voltage - Input (Min): 4.5V; Voltage - Input (Max): 17V; Voltage - Output (Min/Fixed): 0.6V; Voltage - Output (Max): 7V; Output Type: Adjustable; Frequency - Switching: 600kHz; Supplier 1: Digi-Key; Manufacturer Part Number: TPS563231DRLR; Category: Voltage Regulators - Switching; Stock 1: 3150; Pricing 1: 1=0.83000, 10=0.72600, 25=0.68200, 100=0.51700, 250=0.44000, 500=0.41800, 1000=0.31900 (USD); Supplier Part Number 1: 296-TPS563231DRLRCT-ND; Topology: Buck; Operating Temperature: -40°C ~ 125°C (TJ); Current - Output: 3A
footprint SOTFL50P160X60-6N (SOTFL, 6-Leads, Body 1.60x1.60mm, Pitch 0.50mm, IPC Medium Density)
pins: 1 VIN (power), 2 SW (power), 3 GND (power), 4 BST (in), 5 EN (in), 6 VFB (in)

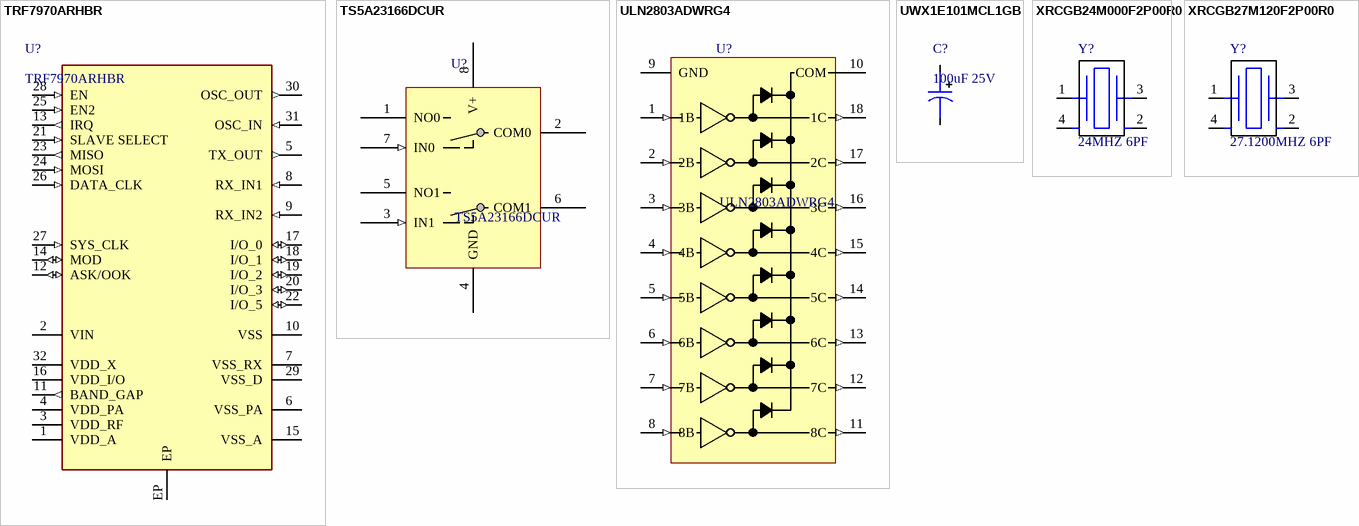
[diagram p10: symbols TRF7970ARHBR to XRCGB27M120F2P00R0]

## TRF7970ARHBR
designator U?
IC RFID RDR/TRANS 13.56MZ 32VQFN; Manufacturer: Texas Instruments; Voltage - Supply: 2.7V-5.5V; Interface: SPI; Standards: ISO 14443, ISO 15693, ISO 18000-3; Frequency: 13.56MHz; Price: 2.71040; Manufacturer's Part Number: TRF7970ARHBR; Package: 32 VQFN (5x5mm); Operating Temperature: -40°C ~ 110°C; Supplier 1: Digi-Key; Supplier Part Number 1: 296-29355-1-ND
footprint VFQFPN-32 5x5mm w EP
pins: 1 VDD_A (power), 2 VIN (power), 3 VDD_RF (power), 4 VDD_PA (power), 5 TX_OUT (out), 6 VSS_PA (power), 7 VSS_RX (power), 8 RX_IN1 (in), 9 RX_IN2 (in), 10 VSS (power), 11 BAND_GAP (out), 12 ASK/OOK (io), 13 IRQ (out), 14 MOD (io), 15 VSS_A (power), 16 VDD_I/O (power), 17 I/O_0 (io), 18 I/O_1 (io), 19 I/O_2 (io), 20 I/O_3 (io), 21 SLAVE SELECT (in), 22 I/O_5 (io), 23 MISO (out), 24 MOSI (in), 25 EN2 (in), 26 DATA_CLK (in), 27 SYS_CLK (in), 28 EN (in), 29 VSS_D (power), 30 OSC_OUT (out), 31 OSC_IN (in), 32 VDD_X (power), EP (power)

## TS5A23166DCUR
designator U?
IC SWITCH SPST DUAL 8VSSOP; Manufacturer: Texas Instruments; Switch Circuit: SPST - NO; Mux/Demux Circuit: 1:1; On-State Resistance (Max): 900mOhm; Channel to Channel Matching: 40mOhm; Supply Voltage: 1.65V ~ 5.5V; Switch Time: 7.5ns, 11ns; -3dB Bandwidth: 155MHz; Number of Circuits: 1; Stock 1: 24,249; ComponentLink1Description: Link; ComponentLink1URL: https://www.digikey.com/en/products/detail/maxim-integrated/MAX11613EUA-T/2062201; Manufacturer Part Number: TS5A23166DCUR; Supplier 1: Digi-Key; Supplier Part Number 1: 296-17906-1-ND
footprint 8-VFSOP (0.091"", 2.30mm Width)
pins: 1 NO0, 2 COM0, 3 IN1 (in), 4 GND (power), 5 NO1, 6 COM1, 7 IN0 (in), 8 V+ (power)

## ULN2803ADWRG4
designator U?
TRANS 8NPN DARL 50V 0.5A 18SO; Manufacturer: Texas Instruments; Transistor Type: 8 NPN Darlington; Current - Collector (Ic): 500mA; Vce Saturation (Max) @ Ib, Ic: 1.6V @ 500µA, 350mA; Voltage - Collector Emitter Breakdown: 50V; ComponentLink1Description: Link; ComponentLink1URL: https://www.digikey.com/en/products/detail/maxim-integrated/MAX11613EUA-T/2062201; Manufacturer Part Number: ULN2803ADWRG4; Supplier 1: Digi-Key; Supplier Part Number 1: 296-35964-1-ND
footprint SOIC-18 (0.295", 7.50mm Width 1.27mm Pitch)
pins: 1 1B (in), 2 2B (in), 3 3B (in), 4 4B (in), 5 5B (in), 6 6B (in), 7 7B (in), 8 8B (in), 9 GND (power), 10 COM (power), 11 8C (out), 12 7C (out), 13 6C (out), 14 5C (out), 15 4C (out), 16 3C (out), 17 2C (out), 18 1C (out)

## UWX1E101MCL1GB
designator C?, comment 100uF 25V
CAP ALUM 100UF 20% 25V SMD; Manufacturer: Nichicon; Manufacturer Part Number: UWX1E101MCL1GB; Dielectric Material: Aluminium; Category: Aluminum Electrolytic Capacitors; Case/Package: Radial; Min Operating Temperature: -40°C; Max Operating Temperature: 85°C; Capacitance: 100uF; Tolerance: 20%; Voltage Rating: 25V; ComponentLink1URL: https://datasheet.ciiva.com/96/e-wt-96659.pdf?src-supplier=Digi-Key; ComponentLink1Description: https://datasheet.ciiva.com/96/e-wt-96659.pdf?src-supplier=Digi-Key; Supplier 1: Digi-Key; Supplier Part Number 1: 493-2113-1-ND
footprint NIchicon UWX series (Nichicon UWX series)
pins: 1, 2

## XRCGB24M000F2P00R0
designator Y?, comment 24MHZ 6PF
CRYSTAL 24.0000MHZ 6PF SMD; Manufacturer: Murata; Manufacturer Part Number: XRCGB24M000F2P00R0; ESR: 150 Ohms; Frequency Stability: ±20ppm; Load Capacitance: 6pF; Operating Temperature: -30°C ~ 85°C; Frequency: 24MHz; Frequency Tolerance: ±20ppm; Supplier 1: Digi-Key; Supplier Part Number 1: 490-9762-1-ND
footprint 2mmx1.6mm Crystal
pins: 1, 2 NC, 3, 4 NC

## XRCGB27M120F2P00R0
designator Y?, comment 27.1200MHZ 6PF
CRYSTAL 27.1200MHZ 6PF SMD; Manufacturer: Murata; Manufacturer Part Number: XRCGB27M120F2P00R0; Frequency: 27.12MHz; ESR: 150 Ohms; Frequency Stability: ±20ppm; Load Capacitance: 6pF; Operating Temperature: -30°C ~ 85°C; Frequency Tolerance: ±20ppm; Supplier 1: Digi-Key; Supplier Part Number 1: 490-9766-1-ND
footprint 2mmx1.6mm Crystal
pins: 1, 2 NC, 3, 4 NC